# EAGLE library part HEADER-6 (library custom)
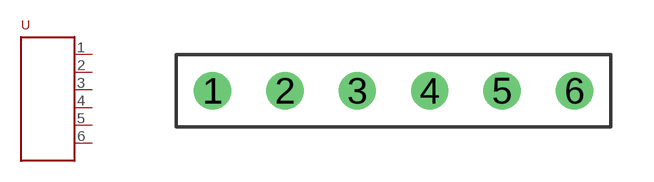
[diagram p18: symbol with the pads of HEADER-6; footprint HEADER-6]

Designator prefix -

## HEADER-6  [HEADER-6]
1  P$1
2  P$2
3  P$3
4  P$4
5  P$5
6  P$6

## Footprint HEADER-6 (pad centres in mm)
drill 0.8: 1 -6.35,0; 2 -3.81,0; 3 -1.27,0; 4 1.27,0; 5 3.81,0; 6 6.35,0